# EAGLE library part M80-54006 (library BrownSpaceEngineering)
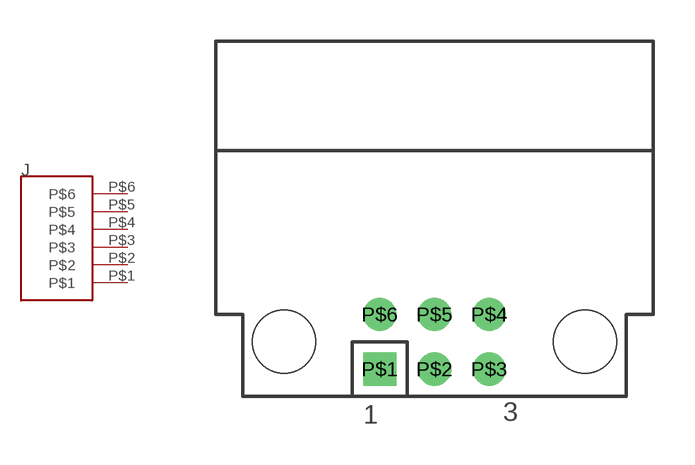
[diagram p23: symbol with the pads of M80-54006; footprint M80-54006]

Designator prefix J

## M80-54006  [M80-54006]
P$1  P$1
P$2  P$2
P$3  P$3
P$4  P$4
P$5  P$5
P$6  P$6

## Footprint M80-54006 (pad centres in mm)
drill 0.7 square: P$1 0,0
drill 0.7: P$2 2,0; P$3 4,0; P$4 4,2; P$5 2,2; P$6 0,2
hole 2.3 at -3.5,1
hole 2.3 at 7.5,1